# EAGLE library part ISL29023 (library postalecki)
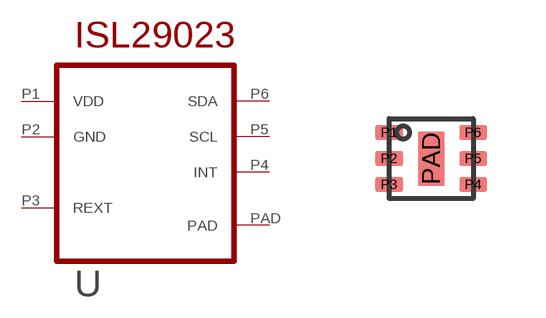
[diagram p3: symbol with the pads of ODFN6; footprint ODFN6]

Designator prefix -

## ISL29023  [ODFN6]
P1  VDD
P2  GND
P3  REXT
P4  INT
P5  SCL
P6  SDA
PAD  PAD

## Footprint ODFN6 (pad centres in mm)
smd 0.7 x 0.35: P1 -1.05,0.65; P2 -1.05,0; P3 -1.05,-0.65; P4 1.05,-0.65; P5 1.05,0; P6 1.05,0.65
smd 0.65 x 1.35: PAD 0,0